# Altium integrated library 691210910002.IntLib: 1 symbol
Pins are listed as number, name and electrical type; pins without a type are passive.

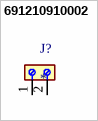
[diagram p0: symbol 691210910002]

## 691210910002
designator J?
MF: {'manufacturer': u'W\xfcrth Elektronik'}; MP: 691210910002; Package: None; Price: None; Value: *; Availability: Unavailable
footprint 691210910002
pins: 1, 2